# Altium integrated library NimaLTD_V3.IntLib: 4 symbols
Pins are listed as number, name and electrical type; pins without a type are passive.

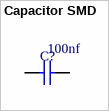
[diagram p0: symbol Capacitor SMD]

## Capacitor SMD
designator C?  value 100nf
footprint CAP_0805
footprint CAP_0201
footprint CAP_0402
footprint CAP_0603
footprint CAP_1206 (Footprint not found)
pins: 1, 2


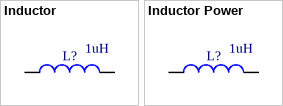
[diagram p1: symbols Inductor to Inductor Power]

## Inductor
designator L?  value 1uH
footprint IND_0201
footprint IND_0402
footprint IND_0603
footprint IND_0805
footprint IND_1206
footprint IND_1210
pins: 1, 2

## Inductor Power
designator L?  value 1uH
footprint IND_3X3
footprint IND_5X5
footprint IND_7X7
footprint IND_12X12
pins: 1, 2


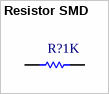
[diagram p2: symbol Resistor SMD]

## Resistor SMD
designator R?  value 1K
footprint RES_0201
footprint RES_0402
footprint RES_0603
footprint RES_0805
footprint RES_1206
pins: 1, 2